# EAGLE library part 6180XX29221_61800929221 (library WR-DSUB)
WR-DSUB Male PCB Connector with Hex Screw General Information Operating Temperature -55 °C up to +105 °C Gender Male Type Straight Insulator Material PBT Insulator Flammability Rating UL94 V-0 Insulator Color White Contact Material Copper Alloy Contact Plating Gold Contact Type Stamped Shielding Material Steel Shielding Plating Tin Electrical Properties Working Voltage 250 V (AC) Withstanding Voltage 1000 V (AC) Contact Resistance 30 mΩ <https://www.we-online.com/components/media/o33089v209%20Family_WR-DSUB_6180xx29221.jpg> Details see: www.we-online.com/components/products/DSUB_MALE_PCB_CONNECTOR_W_HEX_SCREW_6180XX29221 <www.we-online.com/catalog/DSUB_MALE_PCB_CONNECTOR_W_HEX_SCREW_6180XX29221/?utm_source=eagle_model&utm_medium=description_link&utm_campaign=eisos_eagle> Updated by Ella Wu 2025-07-25 2025 (C) Würth Elektronik
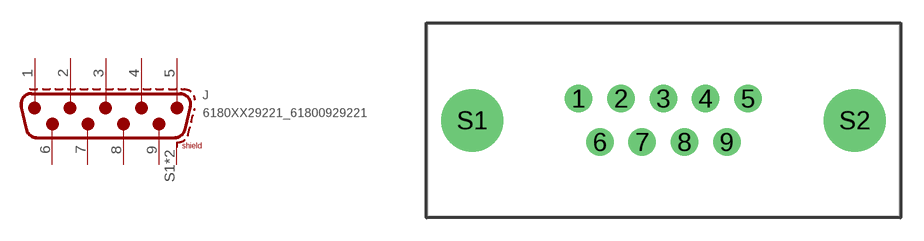
[diagram p3: symbol with the pads of 61800929221; footprint 61800929221]

Designator prefix J

## 6180XX29221_61800929221 (DATASHEET-URL: https://www.we-online.com/redexpert/spec/61800929221?ae; GENDER: Male; OPERATING-TEMPERATURE: -55 °C up to +105 °C; PART-NUMBER: 61800929221; PINS: 9; TYPE: Straight; VALUE: 61800929221; WORKING-VOLTAGE: 250VAC)  [61800929221]
1  1
2  2
3  3
4  4
5  5
6  6
7  7
8  8
9  9
S1  SHIELD
S2  SHIELD

## Footprint 61800929221 (pad centres in mm)
WR-DSUB Male PCB Connector with Hex Screw, 9 Pins
drill 1.2: 1 -5.55,1.42; 2 -2.78,1.42; 3 -0.01,1.42; 4 2.76,1.42; 5 5.53,1.42; 6 -4.165,-1.42; 7 -1.395,-1.42; 8 1.375,-1.42; 9 4.145,-1.42
drill 3.05: S1 -12.5,0; S2 12.5,0